# Altium schematic symbol library powercon.SCHLIB: 1 symbol
Pins are listed as number, name and electrical type; pins without a type are passive.

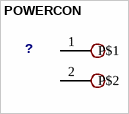
[diagram p0: symbol POWERCON]

## POWERCON
designator ?
footprint MKS1852-6-0-202
pins: 1 P$1, 2 P$2